# EAGLE library part SFW12R-1STE1LF (library FCI-tkr)
FFC/FPC CONNECTOR, RECEPTACLE 12POS 1ROW
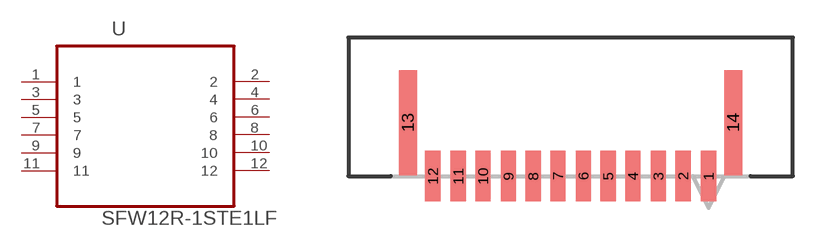
[diagram p60: symbol with the pads of FCI_SFW12R-1STE1LF; footprint FCI_SFW12R-1STE1LF]

Designator prefix U

## SFW12R-1STE1LF (MPN: SFW12R-1STE1LF; OC_FARNELL: 1632209; OC_NEWARK: 62K5599; PACKAGE: CONNECTOR-12POS; SUPPLIER: FCI)  [FCI_SFW12R-1STE1LF]
1  1  pas
2  2  pas
3  3  pas
4  4  pas
5  5  pas
6  6  pas
7  7  pas
8  8  pas
9  9  pas
10  10  pas
11  11  pas
12  12  pas

## Footprint FCI_SFW12R-1STE1LF (pad centres in mm)
smd 0.61 x 2.007: 1 5.512,2.743; 2 4.496,2.743; 3 3.505,2.743; 4 2.489,2.743; 5 1.499,2.743; 6 0.508,2.743; 7 -0.508,2.743; 8 -1.499,2.743; 9 -2.489,2.743; 10 -3.505,2.743; 11 -4.496,2.743; 12 -5.512,2.743
smd 0.711 x 4.191: 13 -6.502,4.877; 14 6.502,4.877